# EAGLE library part ARDUINO-CONN-6 (library MIDI router MCU parts)
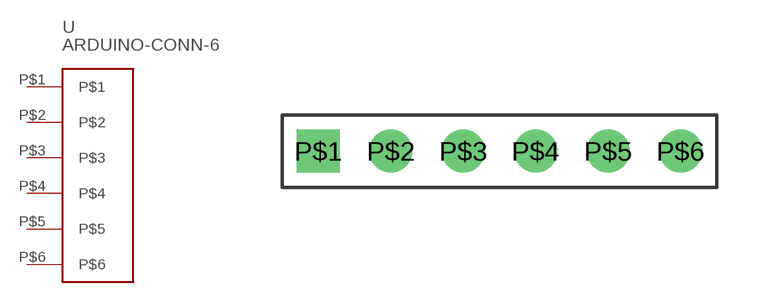
[diagram p7: symbol with the pads of ARDUINO-CONN-6; footprint ARDUINO-CONN-6]

Designator prefix -

## ARDUINO-CONN-6  [ARDUINO-CONN-6]
P$1  P$1
P$2  P$2
P$3  P$3
P$4  P$4
P$5  P$5
P$6  P$6

## Footprint ARDUINO-CONN-6 (pad centres in mm)
drill 1 square: P$1 0,0
drill 1: P$2 2.54,0; P$3 5.08,0; P$4 7.62,0; P$5 10.16,0; P$6 12.7,0